# EAGLE library part MP4570 (library mp4570)
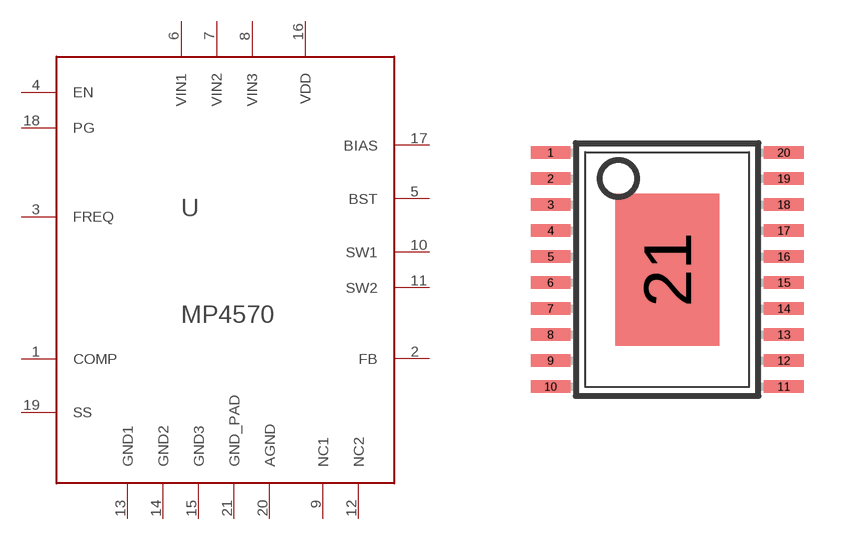
[diagram p0: symbol with the pads of TSSOP-20_EP; footprint TSSOP-20_EP]

Designator prefix -

## MP4570GF  [TSSOP-20_EP]
1  COMP
2  FB
3  FREQ
4  EN
5  BST
6  VIN1
7  VIN2
8  VIN3
9  NC1
10  SW1
11  SW2
12  NC2
13  GND1
14  GND2
15  GND3
16  VDD
17  BIAS
18  PG
19  SS
20  AGND
21  GND_PAD

## Footprint TSSOP-20_EP (pad centres in mm)
smd 0.991 x 0.305: 1 -2.918,2.925; 2 -2.918,2.275; 3 -2.918,1.625; 4 -2.918,0.975; 5 -2.918,0.325; 6 -2.918,-0.325; 7 -2.918,-0.975; 8 -2.918,-1.625; 9 -2.918,-2.275; 10 -2.918,-2.925; 11 2.918,-2.925; 12 2.918,-2.275; 13 2.918,-1.625; 14 2.918,-0.975; 15 2.918,-0.325; 16 2.918,0.325; 17 2.918,0.975; 18 2.918,1.625; 19 2.918,2.275; 20 2.918,2.925
smd 2.6 x 3.8: 21 0,0